# EAGLE library part SPI_MEM (library Eagle_CAD_parts)
IC FLASH SPI
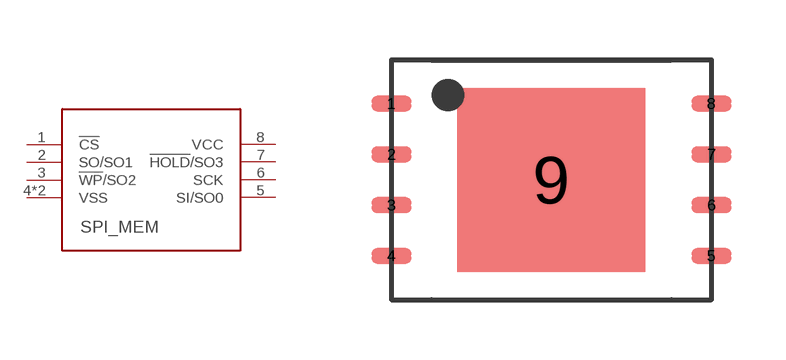
[diagram p42: symbol with the pads of 8-WSON-8X6; footprint 8-WSON-8X6]

Designator prefix -

## SPI_MEM_TC58CVG0S3HRAIG (DIGIKEY_PART_NUMBER: TC58CVG0S3HRAIG-ND; FREQ: 104 MHz; MEMORY: 1 Gbit (512 MB); TYPE: FLASH - NAND; VCC: 2.7 - 3.6 V)  [8-WSON-8X6]
1  !CS
2  SO/SO1
3  !WP!/SO2
4  VSS
5  SI/SO0
6  SCK
7  !HOLD!/SO3
8  VCC
9  VSS

## SPI_MEM_W25Q256JVEIQ (DIGIKEY_PART_NUMBER: W25Q256JVEIQ-ND; FREQ: 104 MHz; MANUFACTURER_PART_NUMBER: W25Q256JVEIQ; MEMORY: 256 Mbit (32 MB); TYPE: FLASH - NOR; VCC: 2.7 - 3.6 V)  [8-WSON-8X6]
1  !CS
2  SO/SO1
3  !WP!/SO2
4  VSS
5  SI/SO0
6  SCK
7  !HOLD!/SO3
8  VCC

## SPI_MEM_W25Q512JVEIQ (DIGIKEY_PART_NUMBER: W25Q512JVEIQ-ND; FREQ: 104 MHz; MANUFACTURER_PART_NUMBER: W25Q512JVEIQ; MEMORY: 512 Mbit (64 MB); TYPE: FLASH - NOR; VCC: 2.7 - 3.6 V)  [8-WSON-8X6]
Pads as for 8-WSON-8X6

## Footprint 8-WSON-8X6 (pad centres in mm)
smd 1 x 0.4: 1 -4,1.905; 2 -4,0.635; 3 -4,-0.635; 4 -4,-1.905; 5 4,-1.905; 6 4,-0.635; 7 4,0.635; 8 4,1.905
smd 4.7 x 4.6: 9 0,0